# EAGLE library part Q-114808 (library con-erni)
Male Connector SMC-Q 80 contacts Standard Assembly Height Source: http://www.erni.com/DB/PDF-Drawing/SMC/114808.pdf
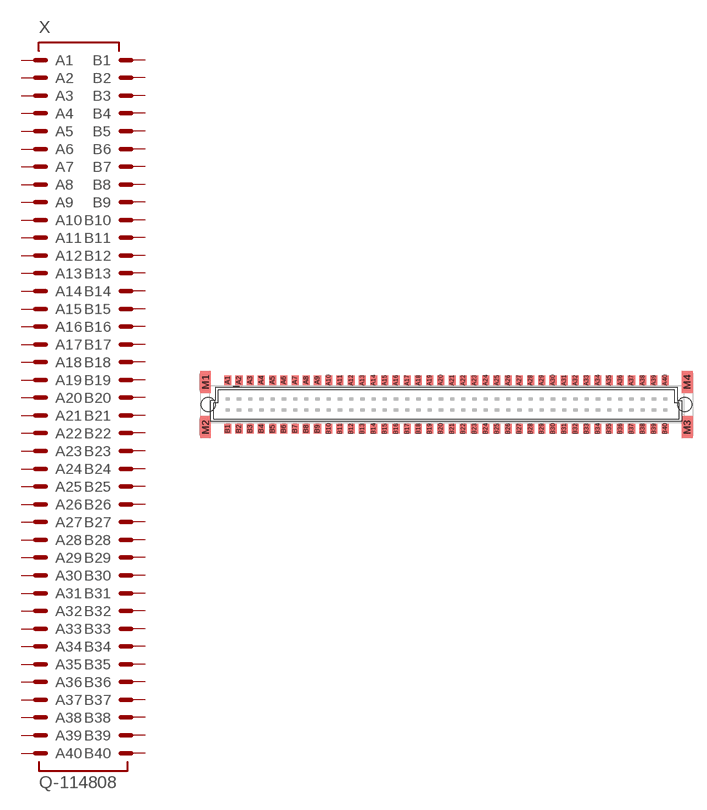
[diagram p12: symbol with the pads of 114808; footprint 114808]

Designator prefix X

## Q-114808 (OC_FARNELL: unknown; OC_NEWARK: unknown)  [114808]
A1  A1  pas
A2  A2  pas
A3  A3  pas
A4  A4  pas
A5  A5  pas
A6  A6  pas
A7  A7  pas
A8  A8  pas
A9  A9  pas
A10  A10  pas
A11  A11  pas
A12  A12  pas
A13  A13  pas
A14  A14  pas
A15  A15  pas
A16  A16  pas
A17  A17  pas
A18  A18  pas
A19  A19  pas
A20  A20  pas
A21  A21  pas
A22  A22  pas
A23  A23  pas
A24  A24  pas
A25  A25  pas
A26  A26  pas
A27  A27  pas
A28  A28  pas
A29  A29  pas
A30  A30  pas
A31  A31  pas
A32  A32  pas
A33  A33  pas
A34  A34  pas
A35  A35  pas
A36  A36  pas
A37  A37  pas
A38  A38  pas
A39  A39  pas
A40  A40  pas
B1  B1  pas
B2  B2  pas
B3  B3  pas
B4  B4  pas
B5  B5  pas
B6  B6  pas
B7  B7  pas
B8  B8  pas
B9  B9  pas
B10  B10  pas
B11  B11  pas
B12  B12  pas
B13  B13  pas
B14  B14  pas
B15  B15  pas
B16  B16  pas
B17  B17  pas
B18  B18  pas
B19  B19  pas
B20  B20  pas
B21  B21  pas
B22  B22  pas
B23  B23  pas
B24  B24  pas
B25  B25  pas
B26  B26  pas
B27  B27  pas
B28  B28  pas
B29  B29  pas
B30  B30  pas
B31  B31  pas
B32  B32  pas
B33  B33  pas
B34  B34  pas
B35  B35  pas
B36  B36  pas
B37  B37  pas
B38  B38  pas
B39  B39  pas
B40  B40  pas

## Footprint 114808 (pad centres in mm)
Male Connector SMC-Q 80 contacts Standard Assembly Height Source: http://www.erni.com/DB/PDF-Drawing/SMC/114808.pdf
smd 0.8 x 1.1: A1 -24.765,2.765; A2 -23.495,2.765; A3 -22.225,2.765; A4 -20.955,2.765; A5 -19.685,2.765; A6 -18.415,2.765; A7 -17.145,2.765; A8 -15.875,2.765; A9 -14.605,2.765; A10 -13.335,2.765; A11 -12.065,2.765; A12 -10.795,2.765; A13 -9.525,2.765; A14 -8.255,2.765; A15 -6.985,2.765; A16 -5.715,2.765; A17 -4.445,2.765; A18 -3.175,2.765; A19 -1.905,2.765; A20 -0.635,2.765; A21 0.635,2.765; A22 1.905,2.765; A23 3.175,2.765; A24 4.445,2.765; A25 5.715,2.765; A26 6.985,2.765; A27 8.255,2.765; A28 9.525,2.765; A29 10.795,2.765; A30 12.065,2.765; A31 13.335,2.765; A32 14.605,2.765; A33 15.875,2.765; A34 17.145,2.765; A35 18.415,2.765; A36 19.685,2.765; A37 20.955,2.765; A38 22.225,2.765; A39 23.495,2.765; A40 24.765,2.765; B1 -24.765,-2.74; B2 -23.495,-2.74; B3 -22.225,-2.74; B4 -20.955,-2.74; B5 -19.685,-2.74; B6 -18.415,-2.74; B7 -17.145,-2.74; B8 -15.875,-2.74; B9 -14.605,-2.74; B10 -13.335,-2.74; B11 -12.065,-2.74; B12 -10.795,-2.74; B13 -9.525,-2.74; B14 -8.255,-2.74; B15 -6.985,-2.74; B16 -5.715,-2.74; B17 -4.445,-2.74; B18 -3.175,-2.74; B19 -1.905,-2.74; B20 -0.635,-2.74; B21 0.635,-2.74; B22 1.905,-2.74; B23 3.175,-2.74; B24 4.445,-2.74; B25 5.715,-2.74; B26 6.985,-2.74; B27 8.255,-2.74; B28 9.525,-2.74; B29 10.795,-2.74; B30 12.065,-2.74; B31 13.335,-2.74; B32 14.605,-2.74; B33 15.875,-2.74; B34 17.145,-2.74; B35 18.415,-2.74; B36 19.685,-2.74; B37 20.955,-2.74; B38 22.225,-2.74; B39 23.495,-2.74; B40 24.765,-2.74
smd 1.2 x 2.5: M1 -27.27,2.55; M2 -27.27,-2.55; M3 27.27,-2.55; M4 27.27,2.55